# Altium footprint library MyProject.PcbLib: 34 footprints (part 3 of 3)
Each footprint in its own frame and in the unit in brackets; x right, y up, seen from the top. Pads: shape width x height; smd on the part's side, far side on the other; paste and mask are expansions set on the pad; w line width, h text height; cw(c..) or ccw(c..) is an arc to the next point about the centre after c.
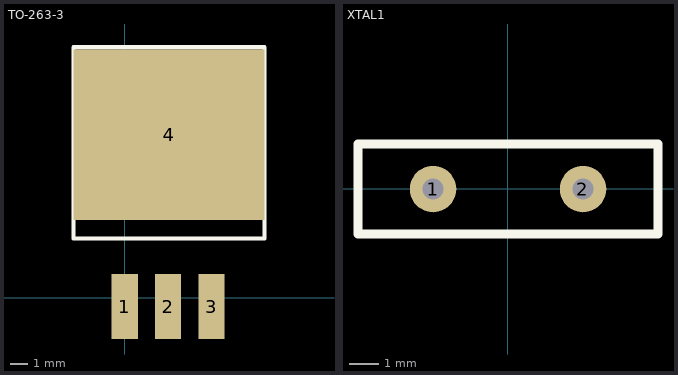
[diagram p2: the footprints below, top view; thin cyan lines are the x and y axes]

## TO-263-3 [mm]
pads (4):
  rect 1.524x3.8 smd: 1(-0.013,-0.506) 2(2.527,-0.506) 3(5.067,-0.506)
  rect 11.2x10 smd: 4(2.575,9.542)
Top Overlay:
  lines w0.254: -3.013,3.477 -3.013,14.653 8.163,14.653 8.163,3.477 -3.013,3.477

## XTAL1 [mil]
pads (2):
  round 62 hole 28: 1(-99.76,-0.24) 2(100.24,-0.24)
Top Overlay:
  lines w12: -199.76,-60.24 200.24,-60.24 200.24,59.76 -199.76,59.76 -199.76,-60.24